# EAGLE library part SP7656 (library ic-Exar)
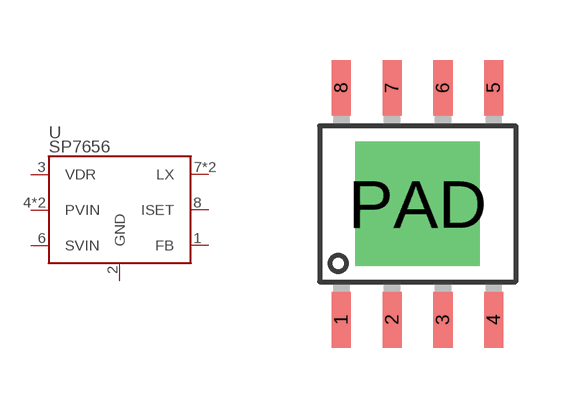
[diagram p0: symbol with the pads of SOP8-PAD; footprint SOP8-PAD]

Designator prefix U

## SP7656  [SOP8-PAD]
1  FB
2  GND
3  VDR
4  PVIN
5  PVIN
6  SVIN
7  LX
8  ISET
PAD  LX

## Footprint SOP8-PAD (pad centres in mm)
smd 0.48 x 1.4: 1 -1.905,-2.9; 2 -0.635,-2.9; 3 0.635,-2.9; 4 1.905,-2.9; 5 1.905,2.9; 6 0.635,2.9; 7 -0.635,2.9; 8 -1.905,2.9
drill 2.1 square: PAD 0,0